# Altium footprint library Generic-Footprint-Library.PcbLib: 21 footprints (part 1 of 2)
Each footprint in its own frame and in the unit in brackets; x right, y up, seen from the top. Pads: shape width x height; smd on the part's side, far side on the other; paste and mask are expansions set on the pad; w line width, h text height; cw(c..) or ccw(c..) is an arc to the next point about the centre after c.
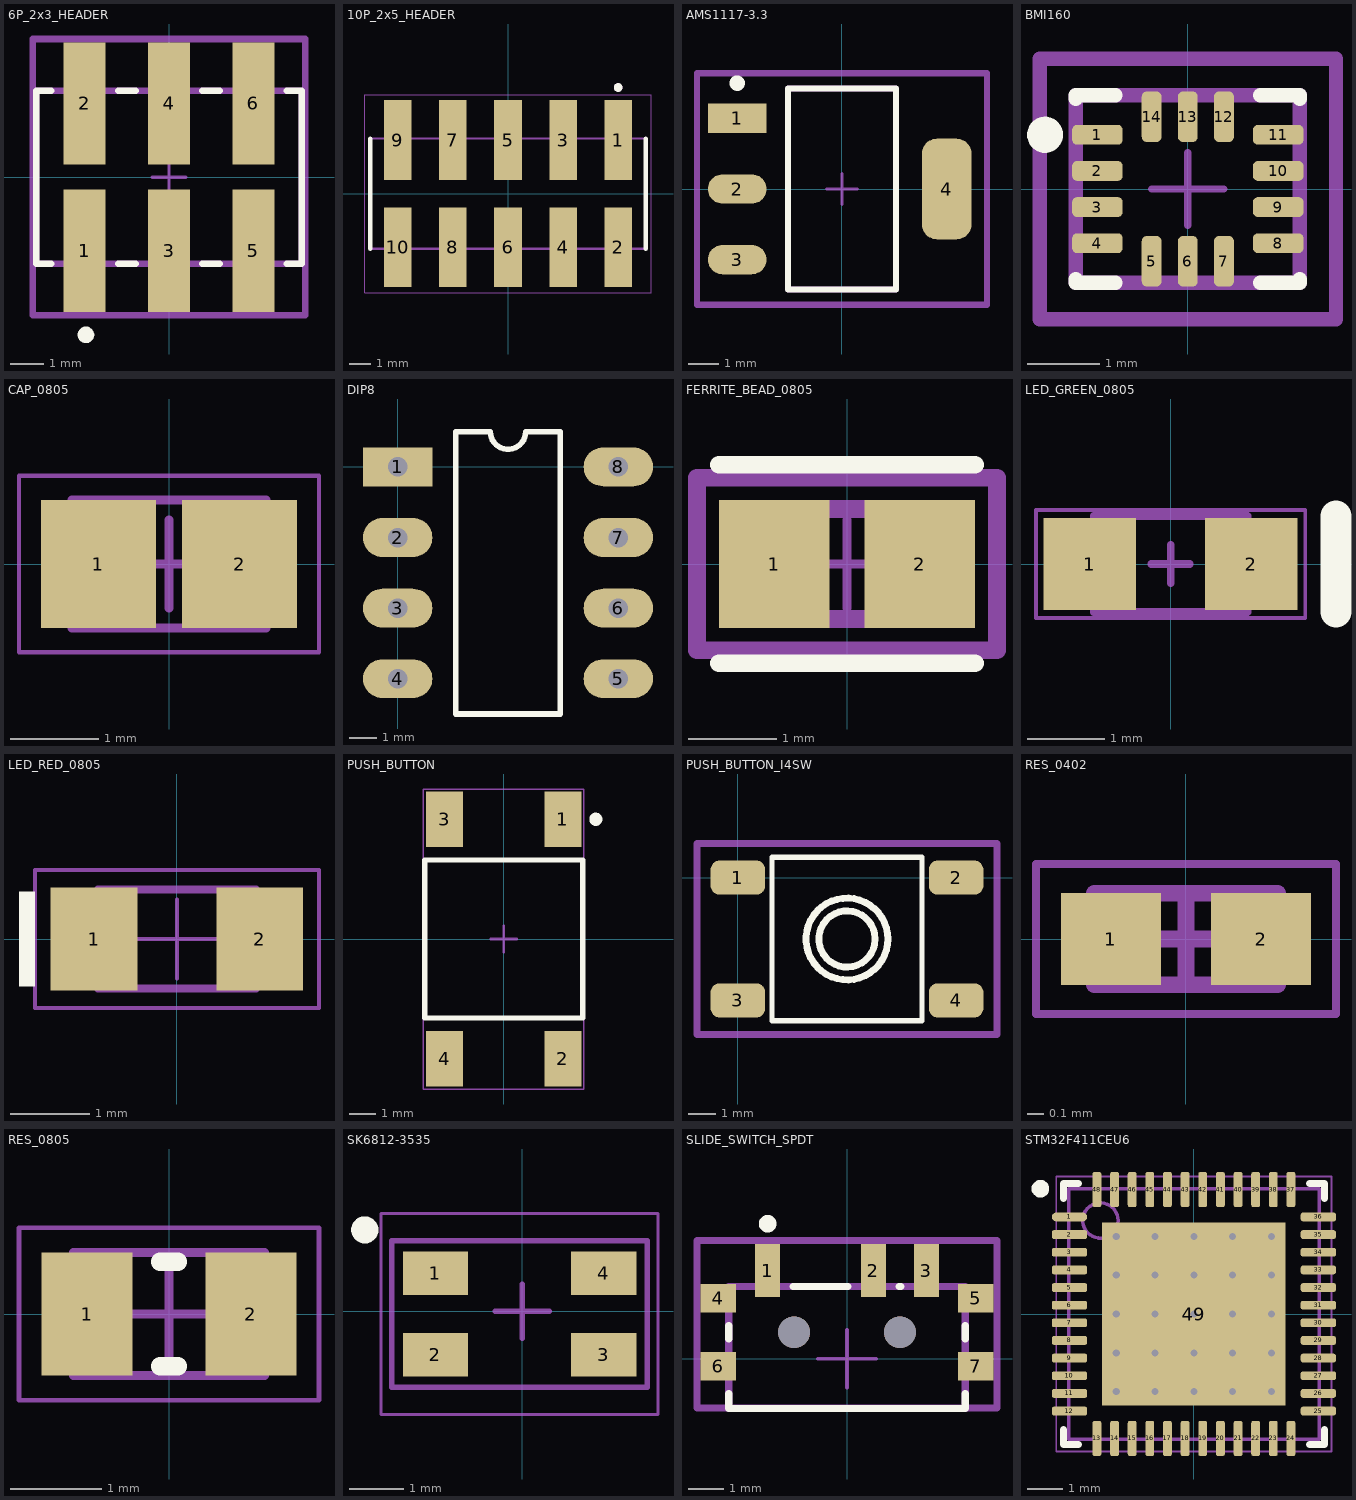
[diagram p0: the footprints below, top view; thin cyan lines are the x and y axes]

## 6P_2x3_HEADER [mm] "Male Header, Pitch 2.54 mm, 2 x 3 Position, Height 8.13 mm, -65 to 125 degC, RoHS, Tube"
pads (6):
  rect 1.27x3.68 smd paste+0 mask+0: 1(-2.54,-2.22) 2(-2.54,2.22) 3(0,-2.22) 4(0,2.22) 5(2.54,-2.22) 6(2.54,2.22)
Top Overlay:
  lines w0.2: -3.55,-2.605 -4,-2.605 -4,2.605 -3.55,2.605 ; -1.53,-2.605 -1.01,-2.605 ; -1.53,2.605 -1.01,2.605 ; 1.01,-2.605 1.53,-2.605 ; 1.01,2.605 1.53,2.605 ; 3.55,-2.605 4,-2.605 4,2.605 3.55,2.605
  lines w0.25: -2.396,-4.68 ccw(c-2.5,-4.75) -2.375,-4.75
Top Courtyard:
  lines w0.2: -4.1,-4.16 -4.1,4.16 4.1,4.16 4.1,-4.16 -4.1,-4.16
Top 3D Body:
  lines w0.2: -4,-2.605 -4,2.605 4,2.605 4,-2.605 -4,-2.605
Top Component Center:
  lines w0.1: -0.5,0 0.5,0 ; 0,-0.5 0,0.5
Top Assembly:
  lines w0.2: -4.1,-4.16 -4.1,4.16 4.1,4.16 4.1,-4.16 -4.1,-4.16
  text ".Designator" at 0,0.188 h1
3D body "Conn_Molex_15-91-0060_eec.STEP": height 0.25, standoff 0, extent -4.1,-4.16 4.1,4.16

## 10P_2x5_HEADER [mm] "10 Position SMD Pin Header 2x5"
pads (10):
  rect 1.27x3.68 smd: 1(5.08,2.475) 2(5.08,-2.475) 3(2.54,2.475) 4(2.54,-2.475) 5(0,2.475) 6(0,-2.475) 7(-2.54,2.475) 8(-2.54,-2.475) 9(-5.08,2.475) 10(-5.08,-2.475)
Top Overlay:
  circle w0.2: c5.08,4.9 r0.1
  lines w0.2: -6.35,-2.54 -6.35,2.54 ; 6.35,-2.54 6.35,2.54
Mechanical 13:
  circle w0.2: c5.08,4.9 r0.1
  lines w0.1: -6.35,-2.54 -6.35,2.54 6.35,2.54 6.35,-2.54 -6.35,-2.54
Mechanical 15:
  lines w0.05: -6.6,-4.565 -6.6,4.565 6.6,4.565 6.6,-4.565 -6.6,-4.565
3D body "step_temp.STEP": height 9.91, standoff 0, extent -6.35,-3.848 6.35,3.848

## AMS1117-3.3 [mm] "LDO Voltage Regulators 1A, 3.3V"
pads (4):
  rect 1.905x0.952 smd paste+0 mask+0: 1(-3.395,2.29)
  rrect100% 1.905x0.952 smd paste+0 mask+0: 2(-3.395,0) 3(-3.395,-2.29)
  rrect59% 1.604x3.262 smd paste+0 mask+0: 4(3.395,0)
Top Overlay:
  circle w0.25: c-3.395,3.429 r0.125
  lines w0.2: -1.753,-3.253 1.753,-3.253 1.753,3.253 -1.753,3.253 -1.753,-3.253
Top Courtyard:
  lines w0.2: -4.697,-3.752 4.697,-3.752 4.697,3.752 -4.697,3.752 -4.697,-3.752
Top 3D Body:
  lines w0.2: -1.753,-3.253 1.753,-3.253 1.753,3.253 -1.753,3.253 -1.753,-3.253
Top Component Center:
  lines w0.1: -0.5,0 0.5,0 ; 0,-0.5 0,0.5
Top Assembly:
  lines w0.2: -4.697,-3.752 4.697,-3.752 4.697,3.752 -4.697,3.752 -4.697,-3.752
  text ".Designator" at 0,0.188 h1
3D body "IC_Advanced_Monolithic_Systems_AMS1117-3_3_eec.STEP": height 0.25, standoff 0, extent -4.697,-3.752 4.697,3.752

## BMI160 [mm] "IMU ACCEL/GYRO I2C/SPI 14LGA"
pads (14):
  rrect50% 0.7x0.275 smd paste+0 mask+0: 1(-1.25,0.75) 2(-1.25,0.25) 3(-1.25,-0.25) 4(-1.25,-0.75) 8(1.25,-0.75) 9(1.25,-0.25) 10(1.25,0.25) 11(1.25,0.75)
  rrect50% 0.275x0.7 smd paste+0 mask+0: 5(-0.5,-1) 6(0,-1) 7(0.5,-1) 12(0.5,1) 13(0,1) 14(-0.5,1)
Top Overlay:
  circle w0.25: c-1.975,0.75 r0.125
  lines w0.2: -1.55,-1.25 -1.55,-1.3 -1,-1.3 ; -1.55,1.25 -1.55,1.3 -1,1.3 ; 1,-1.3 1.55,-1.3 1.55,-1.25 ; 1,1.3 1.55,1.3 1.55,1.25
Top Courtyard:
  lines w0.2: -2.05,-1.8 -2.05,1.8 2.05,1.8 2.05,-1.8 -2.05,-1.8
Top 3D Body:
  lines w0.2: -1.55,-1.3 -1.55,1.3 1.55,1.3 1.55,-1.3 -1.55,-1.3
Top Component Center:
  lines w0.1: -0.5,0 0.5,0 ; 0,-0.5 0,0.5
Top Assembly:
  lines w0.2: -2.05,-1.8 -2.05,1.8 2.05,1.8 2.05,-1.8 -2.05,-1.8
  text ".Designator" at 0,0.188 h1
3D body "IC_Bosch_Sensortec_BMI160_eec.STEP": height 0.25, standoff 0, extent -2.05,-1.8 2.05,1.8

## CAP_0805 [mm] "Chip Capacitor, 2-Leads, Body 2.00x1.25mm, IPC Medium Density"
height 1
pads (2):
  rect 1.3x1.45 smd: 1(-0.8,0) 2(0.8,0)
Mechanical 13:
  lines w0.1: -1.1,-0.725 -1.1,0.725 1.1,0.725 1.1,-0.725 -1.1,-0.725
Mechanical 15:
  lines w0.05: -1.7,-1 -1.7,1 1.7,1 1.7,-1 -1.7,-1
  lines w0.1: -0.5,0 0.5,0 ; 0,-0.5 0,0.5
3D body "CAP_0805.step": height 1, standoff 0, extent -1.1,-0.725 1.1,0.725

## DIP8 [mm]
pads (8):
  rect 2.5x1.4 hole 0.7: 1(0,0)
  oval 2.5x1.4 hole 0.7: 2(0,-2.54) 3(0,-5.08) 4(0,-7.62) 5(7.94,-7.62) 6(7.94,-5.08) 7(7.94,-2.54) 8(7.94,0)
Top Overlay:
  lines w0.2: 2.085,-8.89 2.085,1.27 3.335,1.27 ccw(c3.97,1.27) 4.605,1.27 5.855,1.27 5.855,-8.89 2.085,-8.89
3D body "DIP8.STEP": height 3.85, standoff -2, extent 0.065,-8.35 7.935,0.85

## FERRITE_BEAD_0805 [mm] "FERRITE BEAD 120 OHM 0805 1LN"
pads (2):
  rect 1.255x1.456 smd paste+0 mask+0: 1(-0.826,0) 2(0.826,0)
Top Overlay:
  lines w0.2: -1.453,-1.128 1.453,-1.128 ; -1.453,1.128 1.453,1.128
Top Courtyard:
  lines w0.2: -1.703,-0.978 1.703,-0.978 1.703,0.978 -1.703,0.978 -1.703,-0.978
Top 3D Body:
  lines w0.2: -1,-0.625 1,-0.625 1,0.625 -1,0.625 -1,-0.625
Top Component Center:
  lines w0.1: -0.5,0 0.5,0 ; 0,-0.5 0,0.5
Top Assembly:
  lines w0.2: -1.703,-0.978 1.703,-0.978 1.703,0.978 -1.703,0.978 -1.703,-0.978
  text ".Designator" at 0,0.188 h1
3D body "FBead_Murata_BLM21AG102SN1D_eec.STEP": height 0.25, standoff 0, extent -1.703,-0.978 1.703,0.978

## LED_GREEN_0805 [mm] "SMD, 2-Leads, Body 2x1.25mm, Height 0.8mm"
height 0.8
pads (2):
  rect 1.2x1.2 smd: 1(-1.05,0) 2(1.05,0)
Top Overlay:
  lines w0.4: 2.15,-0.625 2.15,0.625
Mechanical 13:
  lines w0.1: -0.25,0.625 -1,0.625 ; -1,0.625 1,0.625 1,-0.625 -1,-0.625 -1,0.625
Mechanical 15:
  lines w0.05: -1.75,-0.7 -1.75,0.7 1.75,0.7 1.75,-0.7 -1.75,-0.7
  lines w0.1: -0.25,0 0.25,0 ; 0,-0.25 0,0.25
3D body: height 0.3, standoff 0, extent -1,-0.625 1,0.625
3D body: height 0.8, standoff 0, extent -0.7,-0.625 0.7,0.625

## LED_RED_0805 [mm] "SMD Mono-color Chip LED, body 2.0x1.25mm"
height 0.7
pads (2):
  rect 1.1x1.3 smd: 1(-1.05,0) 2(1.05,0)
Top Overlay:
  rectangle: -2,-0.6 -1.8,0.6
Top Courtyard:
  lines w0.05: -0.5,0 0.5,0 ; 0,-0.5 0,0.5 ; -1.8,-0.875 -1.8,0.875 1.8,0.875 1.8,-0.875 -1.8,-0.875
Top Designator:
  text ".Designator" at -2.499,-0.167 h0.5
Top Component Outline:
  rectangle: -1,-0.625 -0.7,0.625
  lines w0.1: -1,-0.625 -1,0.625 1,0.625 1,-0.625 -1,-0.625
3D body "150080xxS75000.stp": height 0.7, standoff 0, extent -1,-0.625 1,0.625

## PUSH_BUTTON [mm] "SMD, 4-Leads, Body 6x6mm, Pitch 4.5mm"
height 5.23
pads (4):
  rect 1.4x2.1 smd: 1(2.25,4.55) 2(2.25,-4.55) 3(-2.25,4.55) 4(-2.25,-4.55)
Top Overlay:
  circle w0.25: c3.5,4.55 r0.125
  lines w0.2: -3,-3 3,-3 3,3 -3,3 -3,-3
Mechanical 13:
  lines w0.1: -3,-3 -3,3 3,3 3,-3 -3,-3
Mechanical 15:
  lines w0.05: -3.05,-5.7 -3.05,5.7 3.05,5.7 3.05,-5.7 -3.05,-5.7
  lines w0.1: -0.5,0 0.5,0 ; 0,-0.5 0,0.5
3D body "c-4-1437565-2-s-3d.stp": height 5.08, standoff 0, extent -3,-5 3,5

## PUSH_BUTTON_I4SW [mm]
pads (4):
  rrect50% 2x1.25 smd: 1(0,0) 2(8,0) 3(0,-4.5) 4(8,-4.5)
Top Overlay:
  circle w0.254: c4,-2.25 r1.5
  circle w0.254: c4,-2.25 r1.031
  lines w0.2: 1.25,-5.25 6.75,-5.25 6.75,0.75 1.25,0.75 1.25,-5.25
Top Courtyard:
  lines w0.254: -1.5,-5.75 -1.5,1.25 9.5,1.25 9.5,-5.75 -1.5,-5.75
3D body "Push_btn_sw_flat.stp": height 3.75, standoff 0, extent -1.05,-5.6 9.05,1.1

## RES_0402 [mm] "Chip Resistor, 2-Leads, Body 1.00x0.50mm, IPC Medium Density"
height 0.3
pads (2):
  rect 0.6x0.55 smd: 1(-0.45,0) 2(0.45,0)
Mechanical 13:
  lines w0.1: -0.55,-0.275 0.55,-0.275 0.55,0.275 -0.55,0.275 -0.55,-0.275
Mechanical 15:
  lines w0.05: -0.9,-0.45 0.9,-0.45 0.9,0.45 -0.9,0.45 -0.9,-0.45
  lines w0.1: -0.275,0 0.275,0 ; 0,-0.275 0,0.275
3D body "RES_0402.step": height 0.3, standoff 0, extent -0.55,-0.275 0.55,0.275

## RES_0805 [mm] "Chip Resistor, 2-Leads, Body 2.00x1.25mm, IPC Medium Density"
height 0.6
pads (2):
  rect 1x1.35 smd: 1(-0.9,0) 2(0.9,0)
Top Overlay:
  lines w0.2: -0.1,-0.575 0.1,-0.575 ; -0.1,0.575 0.1,0.575
Top Courtyard:
  lines w0.05: -1.65,-0.95 1.65,-0.95 1.65,0.95 -1.65,0.95 -1.65,-0.95
  lines w0.1: -0.5,0 0.5,0 ; 0,-0.5 0,0.5
Mechanical 13:
  lines w0.1: -1.05,-0.675 1.05,-0.675 1.05,0.675 -1.05,0.675 -1.05,-0.675
3D body "RES_0805.step": height 0.6, standoff 0, extent -1.05,-0.675 1.05,0.675

## SK6812-3535 [mm] "SMD, 4-Leads, Body 5x5mm"
pads (4):
  rect 1.2x0.8 smd: 1(-1.6,0.7) 2(-1.6,-0.8) 3(1.5,-0.8) 4(1.5,0.7)
Top Overlay:
  circle w0.25: c-2.9,1.5 r0.125
Mechanical 13:
  lines w0.1: -2.4,-1.4 -2.4,1.3 2.3,1.3 2.3,-1.4 -2.4,-1.4
Mechanical 15:
  lines w0.05: -2.6,-1.9 2.5,-1.9 2.5,1.8 -2.6,1.8 -2.6,-1.9
  lines w0.1: -0.5,0 0.5,0 ; 0,-0.5 0,0.5
3D body "SMD SK6812 Super LED.step": height 1.13, standoff 0.17, extent -1.9,-1.8 1.8,1.7

## SLIDE_SWITCH_SPDT [mm] "SWITCH SLIDE SPDT 300MA 6V"
pads (9):
  rect 0.7x1.5 smd paste+0 mask+0: 1(-2.25,2.5) 2(0.75,2.5) 3(2.25,2.5)
  rect 1x0.8 smd paste+0 mask+0: 4(-3.65,1.715) 5(3.65,1.715) 6(-3.65,-0.215) 7(3.65,-0.215)
  round 0.9 hole 0.9 unplated paste-2539.97 mask+0: ""(-1.5,0.75) ""(1.5,0.75)
Top Overlay:
  circle w0.25: c-2.25,3.825 r0.125
  lines w0.2: -3.35,-0.99 -3.35,-1.415 3.35,-1.415 3.35,-0.99 ; -3.35,0.56 -3.35,0.94 ; -1.525,2.05 0.025,2.05 ; 1.475,2.05 1.525,2.05 ; 3.35,0.56 3.35,0.94
Top Courtyard:
  lines w0.2: -4.25,-1.397 4.25,-1.397 4.25,3.35 -4.25,3.35 -4.25,-1.397
Top 3D Body:
  lines w0.2: -3.35,-1.415 3.35,-1.415 3.35,2.05 -3.35,2.05 -3.35,-1.415
Top Component Center:
  lines w0.1: -0.825,0 0.825,0 ; 0,-0.825 0,0.825
Top Assembly:
  lines w0.2: -4.25,-1.397 4.25,-1.397 4.25,3.35 -4.25,3.35 -4.25,-1.397
  text ".Designator" at 0,0.788 h1
3D body "Switch_C&K_PCM12SMTR_eec.STEP": height 0.25, standoff 0, extent -4.25,-1.388 4.25,4.112

## STM32F411CEU6 [mm] "QFN, 48-Leads, Body 7.1x7.1mm, Pitch 0.5mm, Thermal Pad 5.6x5.6mm, IPC High Density"
height 0.6
pads (49):
  oval 1x0.25 smd: 1(-3.527,2.75)
  rrect50% 1x0.25 smd: 2(-3.527,2.25) 3(-3.527,1.75) 4(-3.527,1.25) 5(-3.527,0.75) 6(-3.527,0.25) 7(-3.527,-0.25) 8(-3.527,-0.75) 9(-3.527,-1.25) 10(-3.527,-1.75) 11(-3.527,-2.25) 12(-3.527,-2.75) 25(3.527,-2.75) 26(3.527,-2.25) 27(3.527,-1.75) 28(3.527,-1.25) 29(3.527,-0.75) 30(3.527,-0.25) 31(3.527,0.25) 32(3.527,0.75) 33(3.527,1.25) 34(3.527,1.75) 35(3.527,2.25) 36(3.527,2.75)
  rrect50% 0.25x1 smd: 13(-2.75,-3.527) 14(-2.25,-3.527) 15(-1.75,-3.527) 16(-1.25,-3.527) 17(-0.75,-3.527) 18(-0.25,-3.527) 19(0.25,-3.527) 20(0.75,-3.527) 21(1.25,-3.527) 22(1.75,-3.527) 23(2.25,-3.527) 24(2.75,-3.527) 37(2.75,3.527) 38(2.25,3.527) 39(1.75,3.527) 40(1.25,3.527) 41(0.75,3.527) 42(0.25,3.527) 43(-0.25,3.527) 44(-0.75,3.527) 45(-1.25,3.527) 46(-1.75,3.527) 47(-2.25,3.527) 48(-2.75,3.527)
  rect 5.2x5.2 smd: 49(0,0)
via -2.2,2.2 diameter 0.5 hole 0.2
via -1.1,2.2 diameter 0.5 hole 0.2
via 0,2.2 diameter 0.5 hole 0.2
via 1.1,2.2 diameter 0.5 hole 0.2
via 2.2,2.2 diameter 0.5 hole 0.2
via -2.2,1.1 diameter 0.5 hole 0.2
via -1.1,1.1 diameter 0.5 hole 0.2
via 0,1.1 diameter 0.5 hole 0.2
via 1.1,1.1 diameter 0.5 hole 0.2
via 2.2,1.1 diameter 0.5 hole 0.2
via -2.2,0 diameter 0.5 hole 0.2
via -1.1,0 diameter 0.5 hole 0.2
via 0,0 diameter 0.5 hole 0.2
via 1.1,0 diameter 0.5 hole 0.2
via 2.2,0 diameter 0.5 hole 0.2
via -2.2,-1.1 diameter 0.5 hole 0.2
via -1.1,-1.1 diameter 0.5 hole 0.2
via 0,-1.1 diameter 0.5 hole 0.2
via 1.1,-1.1 diameter 0.5 hole 0.2
via 2.2,-1.1 diameter 0.5 hole 0.2
via -2.2,-2.2 diameter 0.5 hole 0.2
via -1.1,-2.2 diameter 0.5 hole 0.2
via 0,-2.2 diameter 0.5 hole 0.2
via 1.1,-2.2 diameter 0.5 hole 0.2
via 2.2,-2.2 diameter 0.5 hole 0.2
Top Overlay:
  circle w0.25: c-4.35,3.55 r0.125
  lines w0.2: -3.7,-3.275 -3.7,-3.7 -3.275,-3.7 ; -3.7,3.275 -3.7,3.7 -3.275,3.7 ; 3.275,-3.7 3.7,-3.7 3.7,-3.275 ; 3.275,3.7 3.7,3.7 3.7,3.275
Mechanical 13:
  circle w0.1: c-2.65,2.65 r0.5
  lines w0.1: -3.55,-3.55 -3.55,3.55 3.55,3.55 3.55,-3.55 -3.55,-3.55
Mechanical 15:
  lines w0.05: -3.9,-3.9 -3.9,3.9 3.9,3.9 3.9,-3.9 -3.9,-3.9
  lines w0.1: -0.5,0 0.5,0 ; 0,-0.5 0,0.5
3D body: height 0.6, standoff 0, extent -3.55,-3.55 3.55,3.55